# EAGLE library part AT91SAM7S32/16 (library atmel-arm)
AT91SAM7S32/16 ARM7 Processor
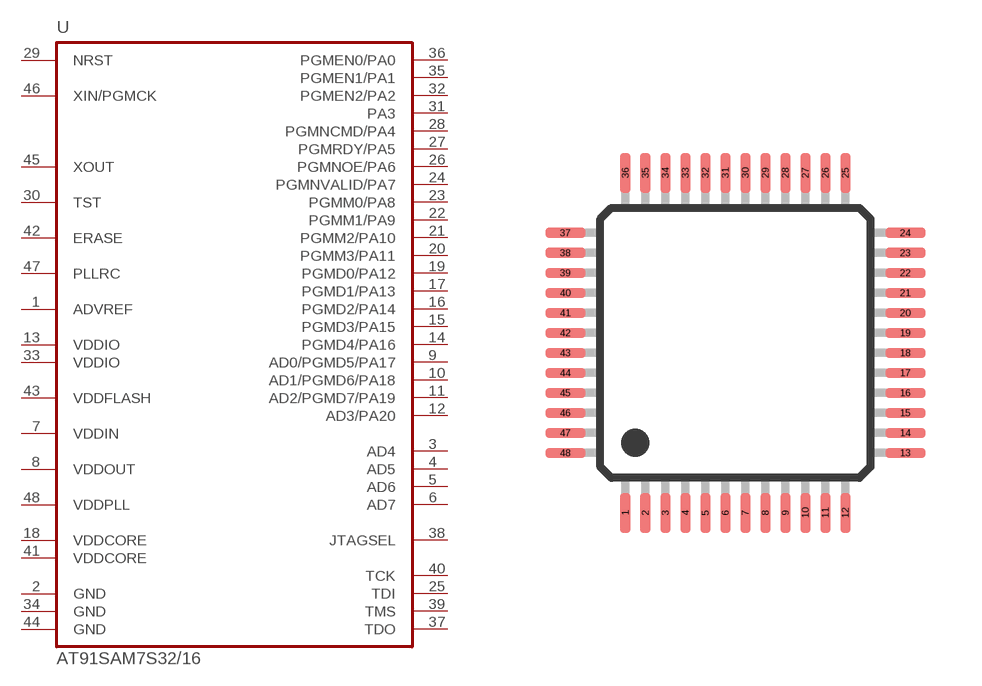
[diagram p2: symbol with the pads of LQFP48; footprint LQFP48]

Designator prefix U

## AT91SAM7S32/16-AU  [LQFP48]
1  ADVREF
2  GND  pwr
3  AD4
4  AD5
5  AD6
6  AD7
7  VDDIN  pwr
8  VDDOUT
9  AD0/PGMD5/PA17
10  AD1/PGMD6/PA18
11  AD2/PGMD7/PA19
12  AD3/PA20
13  VDDIO  pwr
14  PGMD4/PA16
15  PGMD3/PA15
16  PGMD2/PA14
17  PGMD1/PA13
18  VDDCORE
19  PGMD0/PA12
20  PGMM3/PA11
21  PGMM2/PA10
22  PGMM1/PA9
23  PGMM0/PA8
24  PGMNVALID/PA7
25  TDI
26  PGMNOE/PA6
27  PGMRDY/PA5
28  PGMNCMD/PA4
29  NRST
30  TST
31  PA3
32  PGMEN2/PA2
33  VDDIO  pwr
34  GND  pwr
35  PGMEN1/PA1
36  PGMEN0/PA0
37  TDO
38  JTAGSEL
39  TMS
40  TCK
41  VDDCORE
42  ERASE
43  VDDFLASH  pwr
44  GND  pwr
45  XOUT
46  XIN/PGMCK
47  PLLRC
48  VDDPLL

## Footprint LQFP48 (pad centres in mm)
LQFP48
smd 0.25 x 1: 1 -2.75,-4.25; 2 -2.25,-4.25; 3 -1.75,-4.25; 4 -1.25,-4.25; 5 -0.75,-4.25; 6 -0.25,-4.25; 7 0.25,-4.25; 8 0.75,-4.25; 9 1.25,-4.25; 10 1.75,-4.25; 11 2.25,-4.25; 12 2.75,-4.25; 25 2.75,4.25; 26 2.25,4.25; 27 1.75,4.25; 28 1.25,4.25; 29 0.75,4.25; 30 0.25,4.25; 31 -0.25,4.25; 32 -0.75,4.25; 33 -1.25,4.25; 34 -1.75,4.25; 35 -2.25,4.25; 36 -2.75,4.25
smd 1 x 0.25: 13 4.25,-2.75; 14 4.25,-2.25; 15 4.25,-1.75; 16 4.25,-1.25; 17 4.25,-0.75; 18 4.25,-0.25; 19 4.25,0.25; 20 4.25,0.75; 21 4.25,1.25; 22 4.25,1.75; 23 4.25,2.25; 24 4.25,2.75; 37 -4.25,2.75; 38 -4.25,2.25; 39 -4.25,1.75; 40 -4.25,1.25; 41 -4.25,0.75; 42 -4.25,0.25; 43 -4.25,-0.25; 44 -4.25,-0.75; 45 -4.25,-1.25; 46 -4.25,-1.75; 47 -4.25,-2.25; 48 -4.25,-2.75